# Altium footprint library SW_TS04-66-50-BK-160-SMT.PcbLib: 1 footprints
Each footprint in its own frame and in the unit in brackets; x right, y up, seen from the top. Pads: shape width x height; smd on the part's side, far side on the other; paste and mask are expansions set on the pad; w line width, h text height; cw(c..) or ccw(c..) is an arc to the next point about the centre after c.
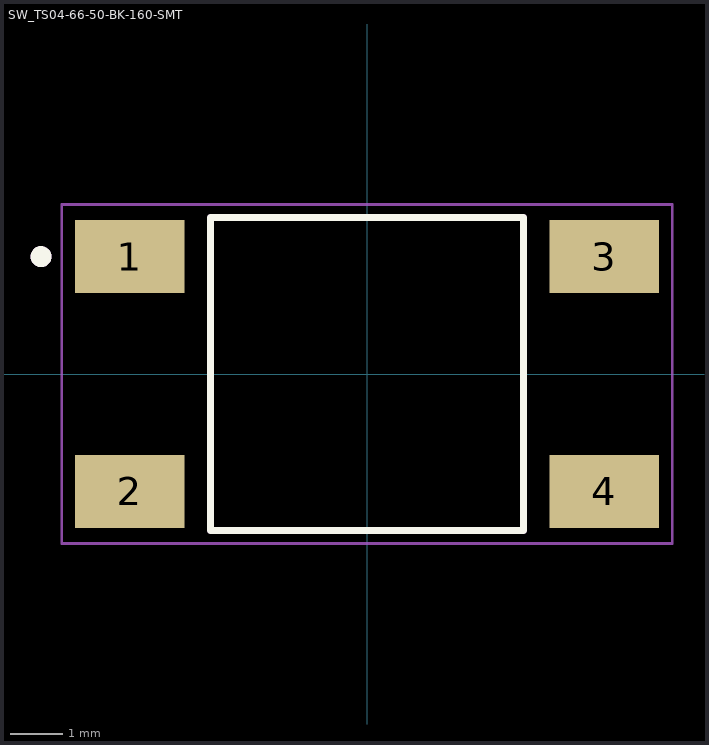
[diagram p0: the footprint, top view; thin cyan lines are the x and y axes]

## SW_TS04-66-50-BK-160-SMT [mm]
pads (4):
  rect 2.1x1.4 smd: 1(-4.55,2.25) 2(-4.55,-2.25) 3(4.55,2.25) 4(4.55,-2.25)
Top Overlay:
  circle w0.2: c-6.25,2.25 r0.1
  lines w0.127: -3,-3 3,-3 3,3 -3,3 -3,-3
Assembly Top:
  circle w0.2: c-6.25,2.25 r0.1
  lines w0.127: -3,-3 3,-3 3,3 -3,3 -3,-3
Courtyard Top:
  lines w0.05: -5.85,-3.25 5.85,-3.25 5.85,3.25 -5.85,3.25 -5.85,-3.25
3D body "step_temp.STEP": height 5, standoff -0.1, extent -5,-3 5,3